# EAGLE library part 4052 (library FiftyOneFunParts)
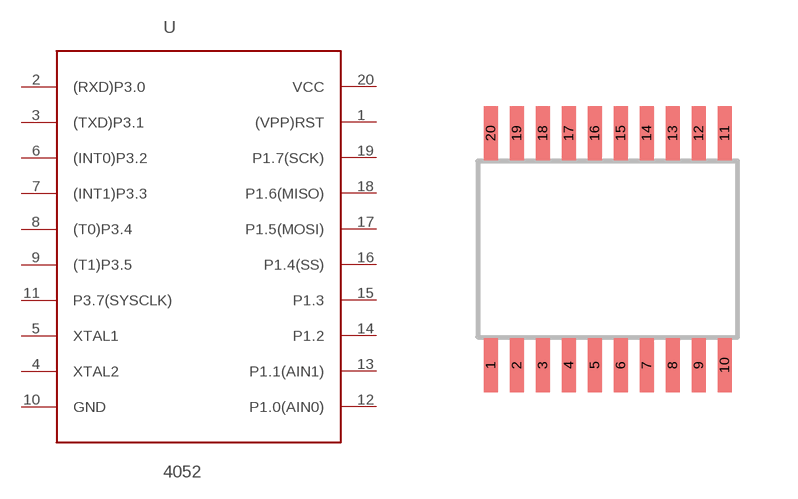
[diagram p2: symbol with the pads of 4052; footprint 4052]

Designator prefix -

## 4052  [4052]
1  (VPP)RST
2  (RXD)P3.0
3  (TXD)P3.1
4  XTAL2
5  XTAL1
6  (INT0)P3.2
7  (INT1)P3.3
8  (T0)P3.4
9  (T1)P3.5
10  GND
11  P3.7(SYSCLK)
12  P1.0(AIN0)
13  P1.1(AIN1)
14  P1.2
15  P1.3
16  P1.4(SS)
17  P1.5(MOSI)
18  P1.6(MISO)
19  P1.7(SCK)
20  VCC

## Footprint 4052 (pad centres in mm)
smd 0.35 x 1.35: 1 -2.925,-2.9; 2 -2.275,-2.9; 3 -1.625,-2.9; 4 -0.975,-2.9; 5 -0.325,-2.9; 6 0.325,-2.9; 7 0.975,-2.9; 8 1.625,-2.9; 9 2.275,-2.9; 10 2.925,-2.9; 11 2.925,2.9; 12 2.275,2.9; 13 1.625,2.9; 14 0.975,2.9; 15 0.325,2.9; 16 -0.325,2.9; 17 -0.975,2.9; 18 -1.625,2.9; 19 -2.275,2.9; 20 -2.925,2.9